# EAGLE library part PIC16F884/887 (library Microchip)
Microchip PIC16F884/887 Flash-Based, 8-bit CMOS Microcontroller Up to 20 Mhz clock Low-power: Standby: 50nA @ 2.0V Operating: 11uA @ 32 kHz, 2.0V 220uA @ 4 Mhz, 2.0V
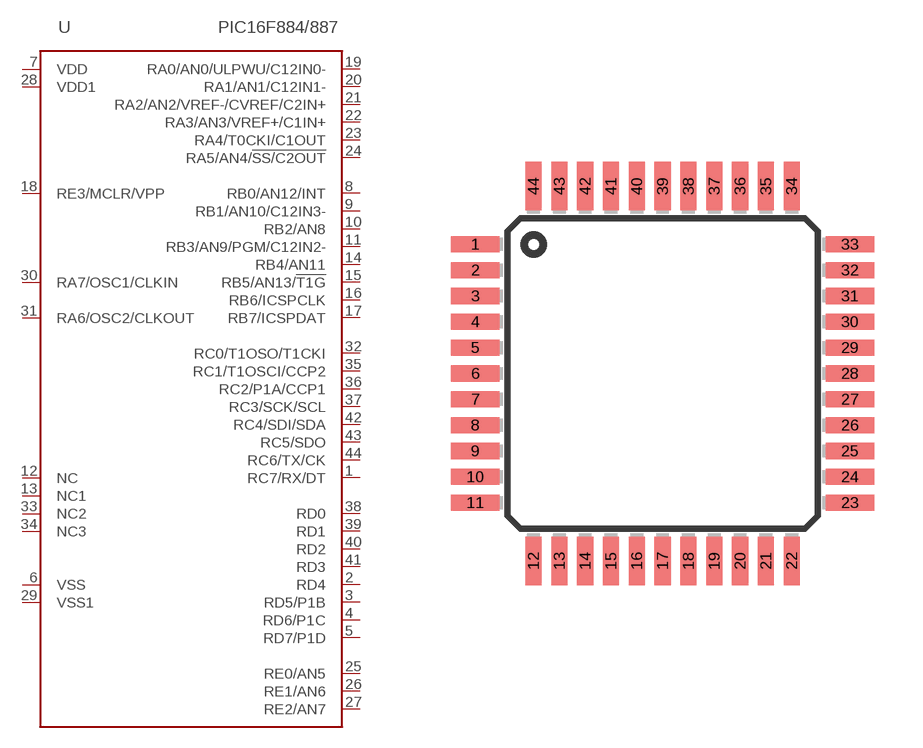
[diagram p0: symbol with the pads of TQFP44; footprint TQFP44]

Designator prefix U

## PIC16F884/887PT  [TQFP44]
1  RC7/RX/DT
2  RD4
3  RD5/P1B
4  RD6/P1C
5  RD7/P1D
6  VSS
7  VDD
8  RB0/AN12/INT
9  RB1/AN10/C12IN3-
10  RB2/AN8
11  RB3/AN9/PGM/C12IN2-
12  NC
13  NC1
14  RB4/AN11
15  RB5/AN13/!T1G
16  RB6/ICSPCLK
17  RB7/ICSPDAT
18  RE3/MCLR/VPP
19  RA0/AN0/ULPWU/C12IN0-
20  RA1/AN1/C12IN1-
21  RA2/AN2/VREF-/CVREF/C2IN+
22  RA3/AN3/VREF+/C1IN+
23  RA4/T0CKI/C1OUT
24  RA5/AN4/!SS/C2OUT
25  RE0/AN5
26  RE1/AN6
27  RE2/AN7
28  VDD1
29  VSS1
30  RA7/OSC1/CLKIN
31  RA6/OSC2/CLKOUT
32  RC0/T1OSO/T1CKI
33  NC2
34  NC3
35  RC1/T1OSCI/CCP2
36  RC2/P1A/CCP1
37  RC3/SCK/SCL
38  RD0
39  RD1
40  RD2
41  RD3
42  RC4/SDI/SDA
43  RC5/SDO
44  RC6/TX/CK

## Footprint TQFP44 (pad centres in mm)
Thin Quad Flat Pack package type TQ
smd 1.5 x 0.5: 1 -5.8,4; 2 -5.8,3.2; 3 -5.8,2.4; 4 -5.8,1.6; 5 -5.8,0.8; 6 -5.8,0; 7 -5.8,-0.8; 8 -5.8,-1.6; 9 -5.8,-2.4; 10 -5.8,-3.2; 11 -5.8,-4; 23 5.8,-4; 24 5.8,-3.2; 25 5.8,-2.4; 26 5.8,-1.6; 27 5.8,-0.8; 28 5.8,0; 29 5.8,0.8; 30 5.8,1.6; 31 5.8,2.4; 32 5.8,3.2; 33 5.8,4
smd 0.5 x 1.5: 12 -4,-5.8; 13 -3.2,-5.8; 14 -2.4,-5.8; 15 -1.6,-5.8; 16 -0.8,-5.8; 17 0,-5.8; 18 0.8,-5.8; 19 1.6,-5.8; 20 2.4,-5.8; 21 3.2,-5.8; 22 4,-5.8; 34 4,5.8; 35 3.2,5.8; 36 2.4,5.8; 37 1.6,5.8; 38 0.8,5.8; 39 0,5.8; 40 -0.8,5.8; 41 -1.6,5.8; 42 -2.4,5.8; 43 -3.2,5.8; 44 -4,5.8